# Altium integrated library TEENSY_COMPONENTS.IntLib: 19 symbols
Pins are listed as number, name and electrical type; pins without a type are passive.

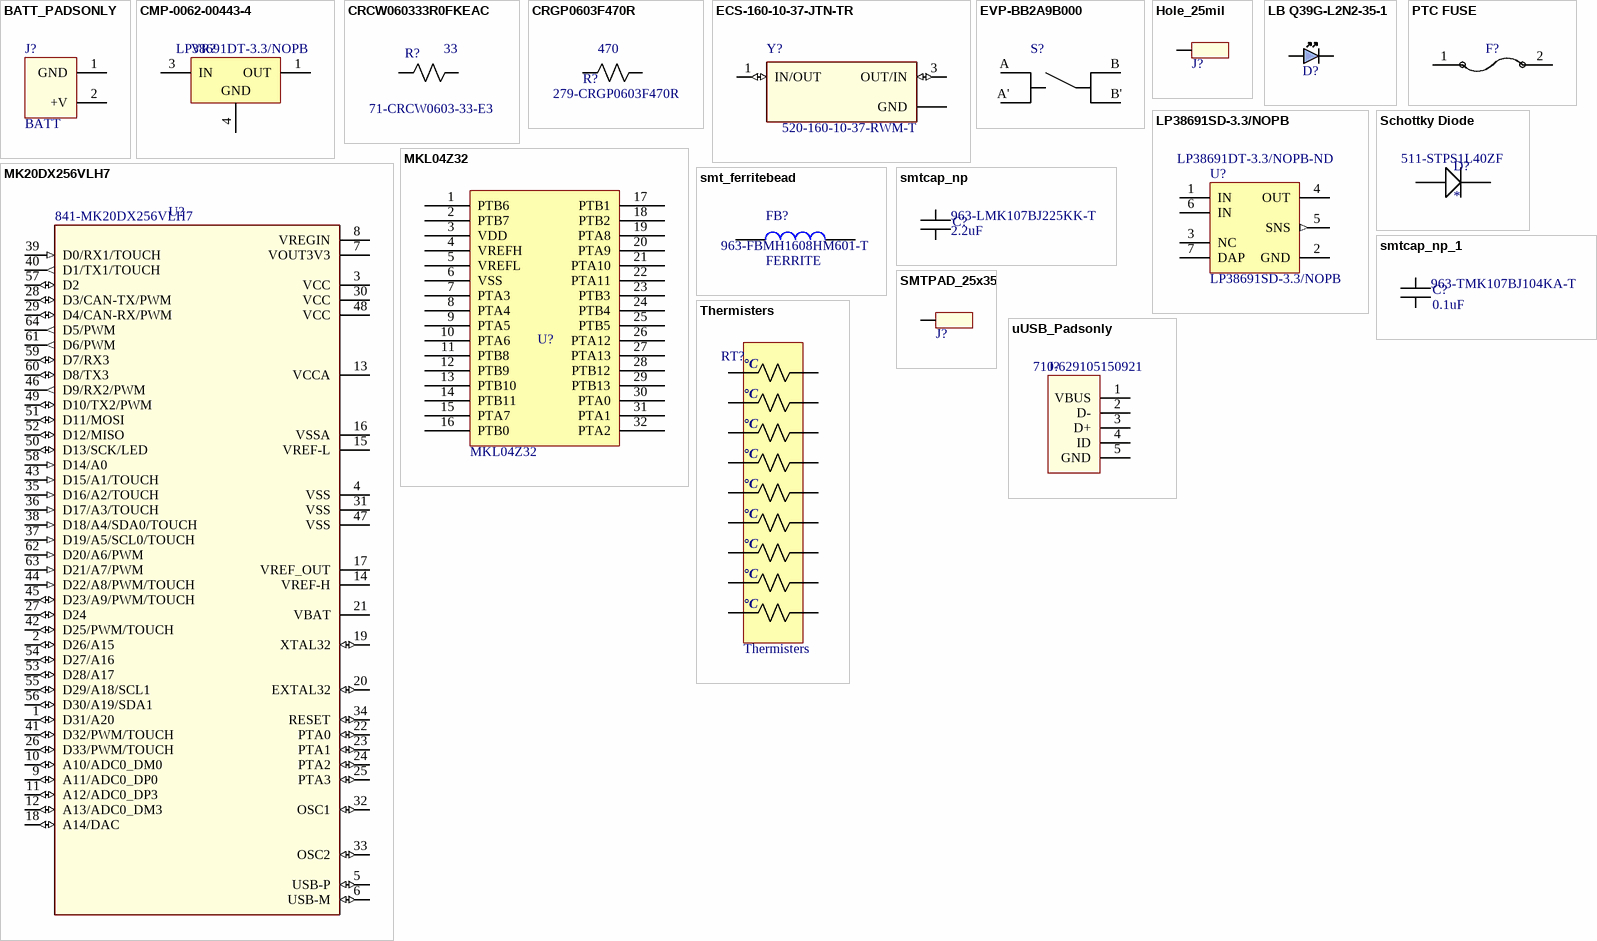
[diagram p0: symbols BATT_PADSONLY to uUSB_Padsonly]

## BATT_PADSONLY
designator J?, comment BATT
Micro USB Connection - solder pads only; Value: DNI
footprint BATT_PADSONLY (LIPO Battery Connector - through hole pads only)
pins: 1 GND, 2 +V

## CMP-0062-00443-4
designator VR?, comment LP38691DT-3.3/NOPB
500mA Low Dropout CMOS Linear Regulators Stable with Ceramic Output Capacitors, 3-pin TO-252, Pb-Free, 75 Rail; Manufacturer: Texas Instruments; CompType: LDO IC; PowerWise: Y; PackageTopMarking: NSUZXYTT*LP38691*DT-3.3; PackageDescription: TO252, Molded, Jedec, 6.8 x 6.10 x 2.30mm Body, 3 Lead, 2.28mm Pitch, Surface Mount; PackageReference: NDP0003B; ComponentLink1Description: Datasheet URL; RoHS: Y; PinCount: 3; ComponentLink1URL: http://www.ti.com/general/docs/lit/getliterature.tsp?genericPartNumber=LP38691&fileType=pdf; Code_JEDEC: TO-252-AA; High-Reliability: Y; PartNumber: LP38691DT-3.3/NOPB
footprint NDP0003B_N (Footprint not found)
pins: 1 OUT (power), 3 IN (power), 4 GND (power)

## CRCW060333R0FKEAC
designator R?, comment value 33  Supplier Part Number 1: 71-CRCW0603-33-E3  (hidden comment: smtres)
33 Ohm Generic Chip Resistor; Supplier 1: Mouser
footprint *RESC1608X55N
pins: 1, 2

## CRGP0603F470R
designator R?, comment value 470  Supplier Part Number 1: 279-CRGP0603F470R  (hidden comment: smtres)
470 Ohm Generic Chip Resistor; Supplier 1: Mouser
footprint *RESC1608X55N
pins: 1, 2

## ECS-160-10-37-JTN-TR
designator Y?  Supplier Part Number 1: 520-160-10-37-RWM-T  (hidden comment: ECS-160-10-37-JTN-TR)
Crystal 16MHz; MF: ECS Inc.; Package: SMD-4 ECS International; MP: ECS-160-10-37-JTN-TR; Digi-Key_Purchase_URL: https://www.digikey.com/product-detail/en/ecs-inc/ECS-160-10-37-RWM-TR/XC2119CT-ND/5875603?utm_source=snapeda&utm_medium=aggregator&utm_campaign=symbol; Digi-Key_Part_Number: XC2119CT-ND; SnapEDA_Link: https://www.snapeda.com/parts/ECS-160-10-37-RWM-TR/ECS%20Inc./view-part/?ref=snap; Value: *; Supplier 1: Mouser
footprint XTAL_ECS-160-10-37-RWM-TR
pins: 1 IN/OUT (io), 2 GND (power), 3 OUT/IN (io), 4 GND (power)

## EVP-BB2A9B000
designator S?  (value not drawn)
Em Light Touch Tactile Switch 2.6x1.6mm 1.6n 0.11mm Travel Ip67; MF: Panasonic Electronic; SnapEDA_Link: https://www.snapeda.com/parts/EVP-BB2A9B000/Panasonic%20Electronic%20Components/view-part/?ref=snap; Digi-Key_Purchase_URL: https://www.digikey.com/product-detail/en/panasonic-electronic-components/EVP-BB2A9B000/P19888CT-ND/6212411?utm_source=snapeda&utm_medium=aggregator&utm_campaign=symbol; MP: EVP-BB2A9B000; Digi-Key_Part_Number: P19888CT-ND; Package: None; Value: *; Supplier 1: Mouser; Supplier Part Number 1: 667-EVP-BB2A9B000
footprint *SW_EVP-BB2A9B000_EVP-BB2A9B000(PRIMARY)
pins: A, A', B, B'

## Hole_25mil
designator J?  (value not drawn)
40 mil solder pad - 25 mil hole; Value: DNI
footprint PAD_40x25 (Single through-hole solder pad)
pins: 1 PIN

## LB Q39G-L2N2-35-1
designator D?  (value not drawn)
Blue LED; Manufacturer: OSRAM Opto Semiconductors; LED Size: 1.6 mm x 0.8 mm x 0.3 mm; Luminous Intensity: 45 mcd; Viewing Angle: 155 deg; Wavelength/Color Temperature: 470 nm; Supplier: Mouser; Manufacturer Part Number: LB Q39G-L2N2-35-1; RoHS: RoHS Compliant; Category: Standard LEDs - SMD; Stock: 4594; Pricing: 1=0.324, 10=0.301, 25=0.279, 50=0.265, 100=0.240, 200=0.208, 500=0.192, 1000=0.184, 2000=0.167, 4000=0.167 (AUD); Illumination Color: Blue; Package / Case: 0603; Packaging: Reel; Maximum Operating Temperature: + 85 C; Minimum Operating Temperature: - 40 C; Product Category: Standard LED - Surface Mount; Standard Pack Qty: 16000; RoHS - Mouser: Y; Minimum Order Quantity: 1; Reeling: True; ComponentLink1URL: http://www.mouser.com/ds/2/311/B_LT_Q39G-62407.pdf; ComponentLink1Description: Datasheet; Supplier Part Number: 720-LBQ39GL2N2351; Supplier 1: Mouser; Supplier Part Number 1: 720-LBQ39GL2N2351
footprint LBQ39G (Osram Chip LED)
pins: 1 A, 2 K

## LP38691SD-3.3/NOPB
designator U?  Supplier Part Number 1: LP38691DT-3.3/NOPB-ND
500mA Low Dropout CMOS Linear Regulators Stable with Ceramic Output Capacitors, 6-pin LLP, Pb-Free, 1000 Reel; Manufacturer: National Semiconductor; PackageTopMarking: ZXYTT*L120B; PowerWise: Y; CompType: LDO IC; DatasheetVersion: Jun-2011; PackageVersion: revA, Jul-2003; PackageReference: SDE06A; PackageDescription: LLP, Plastic, Dual, 3 x 3 x 0.8mm Body, 6 Lead, 0.95mm Pitch, No Pullback; PartNumber: LP38691SD-3.3/NOPB; RoHS: Y; PinCount: 6; High-Reliability: Y; ComponentLink1Description: Manufacturer URL; ComponentLink1URL: http://www.national.com/; ComponentLink2Description: LP38691 Datasheet; ComponentLink2URL: http://www.national.com/ds/LP/LP38691.pdf; ComponentLink3Description: LP38691 Web Page; ComponentLink3URL: http://www.national.com/pf/LP/LP38691.html; ComponentLink4Description: SDE06A Package Page; ComponentLink4URL: http://www.national.com/packaging/folders/sde06a.html; Supplier 1: Digi-Key
footprint SDE06A_full (SON, 6-Leads, Body 3x3 mm, Pitch 0.95mm, NSC Recommended)
pins: 1 IN (power), 2 GND (power), 3 NC, 4 OUT (power), 5 SNS (out), 6 IN (power), 7 DAP (power)

## MK20DX256VLH7
designator U?  Supplier Part Number 1: 841-MK20DX256VLH7  (hidden comment: MK20DX256VLH7)
MCU 32-bit Kinetis K20 ARM Cortex M4 RISC 256KB Flash 1.8V/2.5V/3.3V 64-Pin LQFP Tray; MF: NXP USA; Package: LQFP-64 Freescale Semiconductor; Price: None; MP: MK20DX256VLH7; Availability: Unavailable; SnapEDA_Link: https://www.snapeda.com/parts/MK20DX256VLH7/NXP%20USA%20Inc./view-part/?ref=snap; Value: *; Supplier 1: Mouser
footprint *QFP50P1200X1200X160-64N
pins: 1 D31/A20 (io), 2 D26/A15 (io), 3 VCC (power), 4 VSS (power), 5 USB-P (io), 6 USB-M (io), 7 VOUT3V3 (power), 8 VREGIN (power), 9 A11/ADC0_DP0 (io), 10 A10/ADC0_DM0 (io), 11 A12/ADC0_DP3 (io), 12 A13/ADC0_DM3 (io), 13 VCCA (power), 14 VREF-H (power), 15 VREF-L (power), 16 VSSA (power), 17 VREF_OUT (power), 18 A14/DAC (io), 19 XTAL32 (io), 20 EXTAL32 (io), 21 VBAT (power), 22 PTA0 (io), 23 PTA1 (io), 24 PTA2 (io), 25 PTA3 (io), 26 D33/PWM/TOUCH (io), 27 D24 (io), 28 D3/CAN-TX/PWM (io), 29 D4/CAN-RX/PWM (io), 30 VCC (power), 31 VSS (power), 32 OSC1 (io), 33 OSC2 (io), 34 RESET (io), 35 D16/A2/TOUCH (in), 36 D17/A3/TOUCH (in), 37 D19/A5/SCL0/TOUCH (in), 38 D18/A4/SDA0/TOUCH (in), 39 D0/RX1/TOUCH (in), 40 D1/TX1/TOUCH (out), 41 D32/PWM/TOUCH (io), 42 D25/PWM/TOUCH (io), 43 D15/A1/TOUCH (in), 44 D22/A8/PWM/TOUCH (in), 45 D23/A9/PWM/TOUCH (io), 46 D9/RX2/PWM (out), 47 VSS (power), 48 VCC (power), 49 D10/TX2/PWM (io), 50 D13/SCK/LED (io), 51 D11/MOSI (io), 52 D12/MISO (io), 53 D28/A17 (io), 54 D27/A16 (io), 55 D29/A18/SCL1 (io), 56 D30/A19/SDA1 (io), 57 D2 (io), 58 D14/A0 (in), 59 D7/RX3 (io), 60 D8/TX3 (io), 61 D6/PWM (out), 62 D20/A6/PWM (in), 63 D21/A7/PWM (in), 64 D5/PWM (out)

## MKL04Z32
designator U?  Part Number: MKL04Z32  (hidden comment: *)
Bootloader chip for teensy 3.2
footprint *QFP80P900X900X160-32N
pins: 1 PTB6, 2 PTB7, 3 VDD, 4 VREFH, 5 VREFL, 6 VSS, 7 PTA3, 8 PTA4, 9 PTA5, 10 PTA6, 11 PTB8, 12 PTB9, 13 PTB10, 14 PTB11, 15 PTA7, 16 PTB0, 17 PTB1, 18 PTB2, 19 PTA8, 20 PTA9, 21 PTA10, 22 PTA11, 23 PTB3, 24 PTB4, 25 PTB5, 26 PTA12, 27 PTA13, 28 PTB12, 29 PTB13, 30 PTA0, 31 PTA1, 32 PTA2

## PTC FUSE
designator F?  (value not drawn)
Supplier 1: Mouser; Supplier Part Number 1: 652-MF-PSMF020X-2
footprint *INDC0805X55N
pins: 1, 2

## Schottky Diode
designator D?  Supplier Part Number 1: 511-STPS1L40ZF
1A Schottky Diode; Supplier 1: Mouser
footprint *SODFL3718X108N; pin to pad 1>C 2>A
pins: 1 cathode, 2 anode

## smt_ferritebead
designator FB?, comment FERRITE  Supplier Part Number 1: 963-FBMH1608HM601-T
Surface Mount Ferrite; Supplier 1: Mouser
footprint *RESC1608X55N
pins: 1, 2

## smtcap_np
designator C?  value 2.2uF  Supplier Part Number 1: 963-LMK107BJ225KK-T  (hidden comment: smtcap_np)
Non Polarized Chip Cap; Supplier 1: Mouser
footprint *RESC1608X55N
pins: 1, 2

## smtcap_np_1
designator C?, comment value 0.1uF  Supplier Part Number 1: 963-TMK107BJ104KA-T  (hidden comment: smtcap_np)
Non Polarized Chip Cap; Supplier 1: Mouser
footprint *RESC1608X55N
pins: 1, 2

## SMTPAD_25x35
designator J?  (value not drawn)
Value: DNI
footprint SMTPAD_25x35
pins: 1 PIN

## Thermisters
designator RT?  (value not drawn)
NTC Thermisters to monitor temperature of box. On PCB this will be a pin header.
footprint MOLEX 90130-1118 (9x2 male shrouded pin header)
pins: 1, 2, 3, 4, 5, 6, 7, 8, 9, 10, 11, 12, 13, 14, 15, 16, 17, 18
text: °C

## uUSB_Padsonly
designator J?, comment Supplier Part Number 1: 710-629105150921  (hidden comment: uUSB Padsonly)
Micro USB Connection - solder pads only; Value: DNI; Supplier 1: Mouser
footprint uUSB_Padsonly (MicroUSB Connection - through hole pads only)
pins: 1 VBUS, 2 D-, 3 D+, 4 ID, 5 GND